# Altium integrated library diy-modules.IntLib: 111 symbols (part 2 of 2)
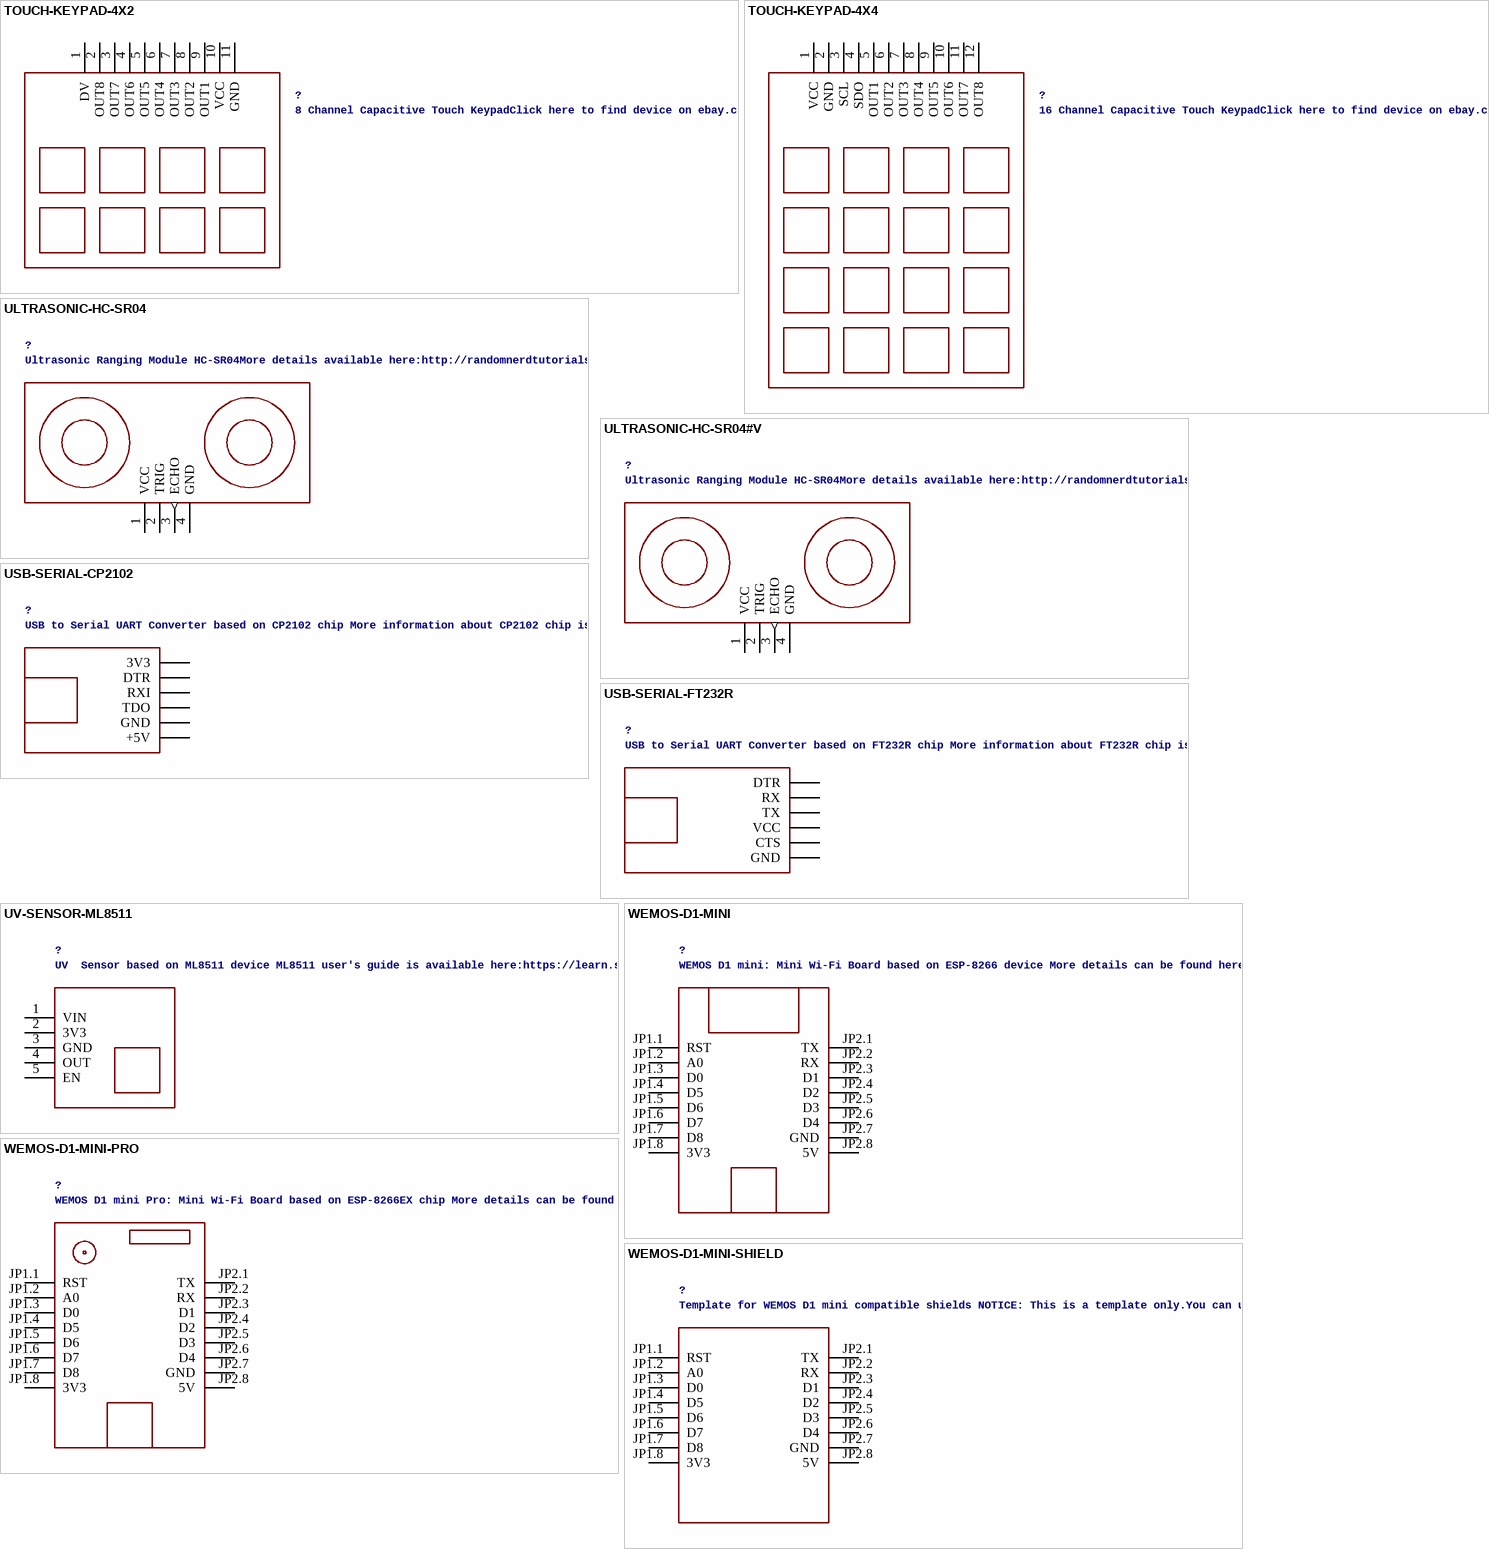
[diagram p13: symbols TOUCH-KEYPAD-4X2 to WEMOS-D1-MINI-SHIELD]

## USB-SERIAL-FT232R
designator ?, comment USB to Serial UART Converter based on FT232R chip More information about FT232R chip is available here:http://www.ftdichip.com/Products/ICs/FT232R.htmClick here to find device on ebay.com
GateName_1: G$1; SymbolName_1: USB-SERIAL-FT232R; LibraryName: diy-modules; DeviceSetName: USB-SERIAL-FT232R; Package: USB-SERIAL-FT232R
footprint USB-SERIAL-FT232R
pins: 1 DTR, 2 RX, 3 TX, 4 VCC (power), 5 CTS, 6 GND

## UV-SENSOR-ML8511
designator ?, comment UV  Sensor based on ML8511 device ML8511 user's guide is available here:https://learn.sparkfun.com/tutorials/ml8511-uv-sensor-hookup-guide/using-the-ml8511ML8511 datasheet is available here:https://www.mcs.anl.gov/research/projects/waggle/downloads/datasheets/lightsense/ml8511.pdfClick here to find device on ebay.com
GateName_1: G$1; SymbolName_1: UV-SENSOR-ML8511; LibraryName: diy-modules; DeviceSetName: UV-SENSOR-ML8511; Package: UV-SENSOR-ML8511
footprint UV-SENSOR-ML8511
pins: 1 VIN (power), 2 3V3 (power), 3 GND (power), 4 OUT, 5 EN

## WEMOS-D1-MINI
designator ?, comment WEMOS D1 mini: Mini Wi-Fi Board based on ESP-8266 device More details can be found here:https://www.wemos.cc/product/d1-mini.htmlClick here to find device on ebay.com
GateName_1: G$1; SymbolName_1: WEMOS-D1-MINI; LibraryName: diy-modules; DeviceSetName: WEMOS-D1-MINI; Package: WEMOS-D1-MINI
footprint WEMOS-D1-MINI
pins: JP1.1 RST, JP1.2 A0, JP1.3 D0, JP1.4 D5, JP1.5 D6, JP1.6 D7, JP1.7 D8, JP1.8 3V3 (power), JP2.1 TX, JP2.2 RX, JP2.3 D1, JP2.4 D2, JP2.5 D3, JP2.6 D4, JP2.7 GND (power), JP2.8 5V (power)

## WEMOS-D1-MINI-PRO
designator ?, comment WEMOS D1 mini Pro: Mini Wi-Fi Board based on ESP-8266EX chip More details can be found here:https://www.wemos.cc/product/d1-mini-pro.htmlClick here to find device on ebay.com
GateName_1: G$1; SymbolName_1: WEMOS-D1-MINI-PRO; LibraryName: diy-modules; DeviceSetName: WEMOS-D1-MINI-PRO; Package: WEMOS-D1-MINI-PRO
footprint WEMOS-D1-MINI-PRO
pins: JP1.1 RST, JP1.2 A0, JP1.3 D0, JP1.4 D5, JP1.5 D6, JP1.6 D7, JP1.7 D8, JP1.8 3V3 (power), JP2.1 TX, JP2.2 RX, JP2.3 D1, JP2.4 D2, JP2.5 D3, JP2.6 D4, JP2.7 GND (power), JP2.8 5V (power)

## WEMOS-D1-MINI-SHIELD
designator ?, comment Template for WEMOS D1 mini compatible shields NOTICE: This is a template only.You can use it as a base to create symbols for WEMOS D1 mini compatible shields. Official list of available shields can be found here:https://www.wemos.cc/D1-mini-Shields
GateName_1: G$1; SymbolName_1: WEMOS-D1-MINI-SHIELD; LibraryName: diy-modules; DeviceSetName: WEMOS-D1-MINI-SHIELD; Package: WEMOS-D1-MINI-SHIELD
footprint WEMOS-D1-MINI-SHIELD
pins: JP1.1 RST, JP1.2 A0, JP1.3 D0, JP1.4 D5, JP1.5 D6, JP1.6 D7, JP1.7 D8, JP1.8 3V3 (power), JP2.1 TX, JP2.2 RX, JP2.3 D1, JP2.4 D2, JP2.5 D3, JP2.6 D4, JP2.7 GND (power), JP2.8 5V (power)

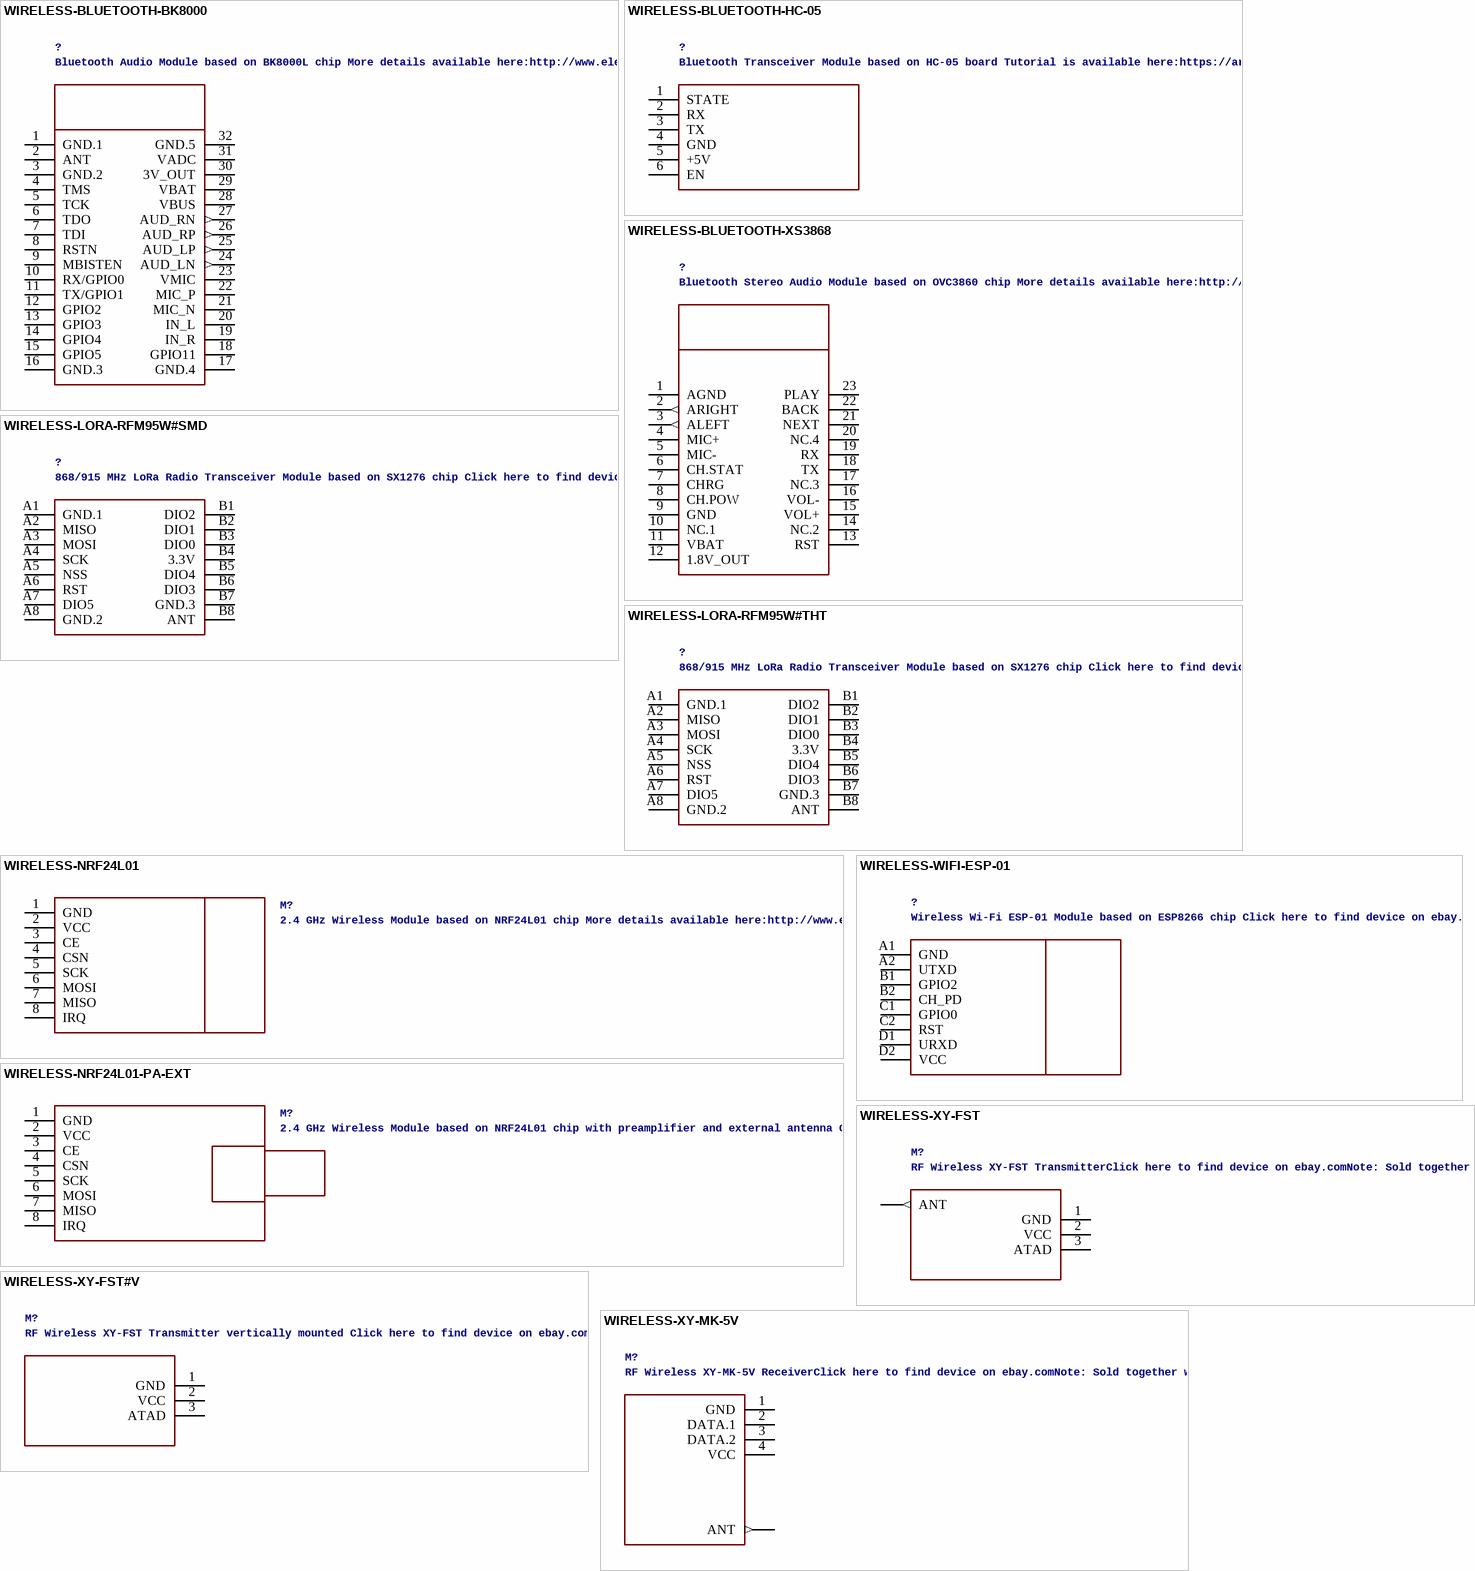
[diagram p11: symbols WIRELESS-BLUETOOTH-BK8000 to WIRELESS-XY-MK-5V]

## WIRELESS-BLUETOOTH-BK8000
designator ?, comment Bluetooth Audio Module based on BK8000L chip More details available here:http://www.electrodragon.com/w/BK8000LClick here to find device on ebay.com
GateName_1: G$1; SymbolName_1: WIRELESS-BLUETOOTH-BK8000; LibraryName: diy-modules; DeviceSetName: WIRELESS-BLUETOOTH-BK8000; Package: WIRELESS-BLUETOOTH-BK8000
footprint WIRELESS-BLUETOOTH-BK8000
pins: 1 GND.1 (power), 2 ANT, 3 GND.2 (power), 4 TMS, 5 TCK, 6 TDO, 7 TDI, 8 RSTN, 9 MBISTEN, 10 RX/GPIO0, 11 TX/GPIO1, 12 GPIO2, 13 GPIO3, 14 GPIO4, 15 GPIO5, 16 GND.3 (power), 17 GND.4 (power), 18 GPIO11, 19 IN_R, 20 IN_L, 21 MIC_N, 22 MIC_P, 23 VMIC, 24 AUD_LN (out), 25 AUD_LP (out), 26 AUD_RP (out), 27 AUD_RN (out), 28 VBUS, 29 VBAT, 30 3V_OUT (power), 31 VADC (power), 32 GND.5 (power)

## WIRELESS-BLUETOOTH-HC-05
designator ?, comment Bluetooth Transceiver Module based on HC-05 board Tutorial is available here:https://arduino-info.wikispaces.com/BlueTooth-HC05-HC06-Modules-How-ToClick here to find device on ebay.com
GateName_1: G$1; SymbolName_1: WIRELESS-BLUETOOTH-HC-05; LibraryName: diy-modules; DeviceSetName: WIRELESS-BLUETOOTH-HC-05; Package: WIRELESS-BLUETOOTH-HC-05
footprint WIRELESS-BLUETOOTH-HC-05
pins: 1 STATE, 2 RX, 3 TX, 4 GND (power), 5 +5V (power), 6 EN

## WIRELESS-BLUETOOTH-XS3868
designator ?, comment Bluetooth Stereo Audio Module based on OVC3860 chip More details available here:http://artofcircuits.com/product/bluetooth-2-0-edr-stereo-audio-ovc3860-module-model-xs-3868Click here to find device on ebay.com
GateName_1: G$1; SymbolName_1: WIRELESS-BLUETOOTH-XS3868; LibraryName: diy-modules; DeviceSetName: WIRELESS-BLUETOOTH-XS3868; Package: WIRELESS-BLUETOOTH-XS3868
footprint WIRELESS-BLUETOOTH-XS3868
pins: 1 AGND (power), 2 ARIGHT (out), 3 ALEFT (out), 4 MIC+, 5 MIC-, 6 CH.STAT, 7 CHRG, 8 CH.POW, 9 GND (power), 10 NC.1, 11 VBAT (power), 12 1.8V_OUT (power), 13 RST (power), 14 NC.2, 15 VOL+, 16 VOL-, 17 NC.3, 18 TX, 19 RX, 20 NC.4, 21 NEXT, 22 BACK, 23 PLAY

## WIRELESS-LORA-RFM95W#SMD
designator ?, comment 868/915 MHz LoRa Radio Transceiver Module based on SX1276 chip Click here to find device on ebay.com
GateName_1: G$1; SymbolName_1: WIRELESS-LORA-RFM95W; DeviceName: #SMD; LibraryName: diy-modules; DeviceSetName: WIRELESS-LORA-RFM95W; Package: WIRELESS-LORA-RFM95W#SMD
footprint WIRELESS-LORA-RFM95W#SMD
pins: A1 GND.1 (power), A2 MISO, A3 MOSI, A4 SCK, A5 NSS, A6 RST, A7 DIO5, A8 GND.2 (power), B1 DIO2, B2 DIO1, B3 DIO0, B4 3.3V (power), B5 DIO4, B6 DIO3, B7 GND.3 (power), B8 ANT

## WIRELESS-LORA-RFM95W#THT
designator ?, comment 868/915 MHz LoRa Radio Transceiver Module based on SX1276 chip Click here to find device on ebay.com
GateName_1: G$1; SymbolName_1: WIRELESS-LORA-RFM95W; DeviceName: #THT; LibraryName: diy-modules; DeviceSetName: WIRELESS-LORA-RFM95W; Package: WIRELESS-LORA-RFM95W#THT
footprint WIRELESS-LORA-RFM95W#THT
pins: A1 GND.1 (power), A2 MISO, A3 MOSI, A4 SCK, A5 NSS, A6 RST, A7 DIO5, A8 GND.2 (power), B1 DIO2, B2 DIO1, B3 DIO0, B4 3.3V (power), B5 DIO4, B6 DIO3, B7 GND.3 (power), B8 ANT

## WIRELESS-NRF24L01
designator M?, comment 2.4 GHz Wireless Module based on NRF24L01 chip More details available here:http://www.electrodragon.com/w/NRF24L01Click here to find device on ebay.com
GateName_1: G$1; SymbolName_1: WIRELESS-NRF24L01; LibraryName: diy-modules; DeviceSetName: WIRELESS-NRF24L01; Package: WIRELESS-NRF24L01
footprint WIRELESS-NRF24L01
pins: 1 GND (power), 2 VCC (power), 3 CE, 4 CSN, 5 SCK, 6 MOSI, 7 MISO, 8 IRQ

## WIRELESS-NRF24L01-PA-EXT
designator M?, comment 2.4 GHz Wireless Module based on NRF24L01 chip with preamplifier and external antenna Click here to find device on ebay.com
GateName_1: G$1; SymbolName_1: WIRELESS-NRF24L01-PA-EXT; LibraryName: diy-modules; DeviceSetName: WIRELESS-NRF24L01-PA-EXT; Package: WIRELESS-NRF24L01-PA-EXT
footprint WIRELESS-NRF24L01-PA-EXT
pins: 1 GND (power), 2 VCC (power), 3 CE, 4 CSN, 5 SCK, 6 MOSI, 7 MISO, 8 IRQ

## WIRELESS-WIFI-ESP-01
designator ?, comment Wireless Wi-Fi ESP-01 Module based on ESP8266 chip Click here to find device on ebay.com
GateName_1: G$1; SymbolName_1: WIRELESS-WIFI-ESP-01; LibraryName: diy-modules; DeviceSetName: WIRELESS-WIFI-ESP-01; Package: WIRELESS-WIFI-ESP-01
footprint WIRELESS-WIFI-ESP-01
pins: A1 GND (power), A2 UTXD, B1 GPIO2, B2 CH_PD, C1 GPIO0, C2 RST, D1 URXD, D2 VCC (power)

## WIRELESS-XY-FST
designator M?, comment RF Wireless XY-FST TransmitterClick here to find device on ebay.comNote: Sold together with receiver.
GateName_1: G$1; SymbolName_1: WIRELESS-XY-FST; LibraryName: diy-modules; DeviceSetName: WIRELESS-XY-FST; Package: WIRELESS-XY-FST
footprint WIRELESS-XY-FST
pins: 1 GND (power), 2 VCC (power), 3 ATAD, ANT (out)

## WIRELESS-XY-FST#V
designator M?, comment RF Wireless XY-FST Transmitter vertically mounted Click here to find device on ebay.comNote: Sold together with receiver.
GateName_1: G$1; SymbolName_1: WIRELESS-XY-FST#V; LibraryName: diy-modules; DeviceSetName: WIRELESS-XY-FST#V; Package: WIRELESS-XY-FST#V
footprint WIRELESS-XY-FST#V
pins: 1 GND (power), 2 VCC (power), 3 ATAD

## WIRELESS-XY-MK-5V
designator M?, comment RF Wireless XY-MK-5V ReceiverClick here to find device on ebay.comNote: Sold together with transmitter.
GateName_1: G$1; SymbolName_1: WIRELESS-XY-MK-5V; LibraryName: diy-modules; DeviceSetName: WIRELESS-XY-MK-5V; Package: WIRELESS-XY-MK-5V
footprint WIRELESS-XY-MK-5V
pins: 1 GND, 2 DATA.1, 3 DATA.2, 4 VCC, ANT (out)

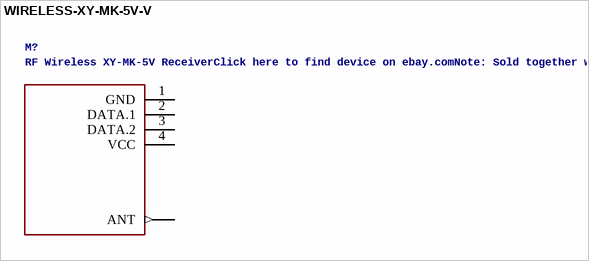
[diagram p12: symbol WIRELESS-XY-MK-5V-V]

## WIRELESS-XY-MK-5V-V
designator M?, comment RF Wireless XY-MK-5V ReceiverClick here to find device on ebay.comNote: Sold together with transmitter.
GateName_1: G$1; SymbolName_1: WIRELESS-XY-MK-5V; DeviceName: -V; LibraryName: diy-modules; DeviceSetName: WIRELESS-XY-MK-5V; Package: WIRELESS-XY-MK-5V#V
footprint WIRELESS-XY-MK-5V#V
pins: 1 GND, 2 DATA.1, 3 DATA.2, 4 VCC, ANT (out)